# EAGLE library part LTC6268 (library esbd-chips)
LTC6268 Linear Technology / Analog Devices 500MHz Ultra-Low Bias Current FET Input Op Amp
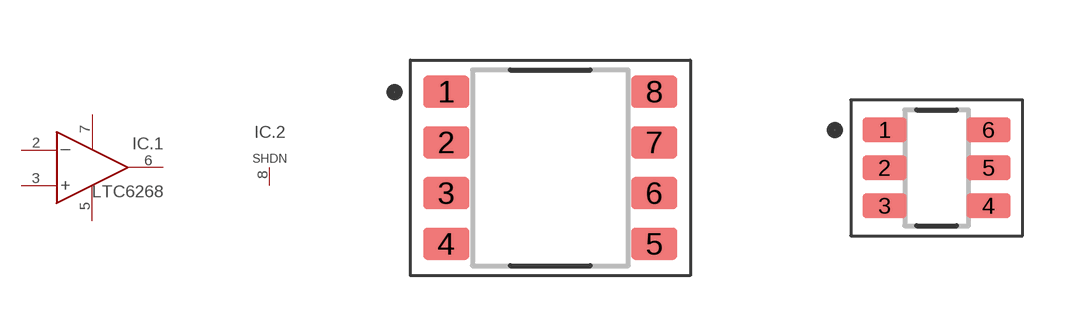
[diagram p34: symbol with the pads of SOIC8_3.90X4.90MM; footprints SOIC8_3.90X4.90MM, SOT23-6_1.60X2.90MM]

Designator prefix IC; gates .1=OPAMP .2=PIN_SHUTDOWN

## LTC6268*S8  [SOIC8_3.90X4.90MM]
2  .1:IN-  in
3  .1:IN+  in
5  .1:V-  pwr
6  .1:OUT  out
7  .1:V+  pwr
8  .2:SHDN  in

## LTC6268*S6  [SOT23-6_1.60X2.90MM]
1  .1:OUT  out
2  .1:V-  pwr
3  .1:IN+  in
4  .1:IN-  in
5  .2:SHDN  in
6  .1:V+  pwr

## Footprint SOIC8_3.90X4.90MM (pad centres in mm)
https://www.analog.com/media/en/package-pcb-resources/package/pkg_pdf/ltc-legacy-soic/05081610_G_SO8.pdf
smd 1.15 x 0.8: 1 -2.6,1.905; 2 -2.6,0.635; 3 -2.6,-0.635; 4 -2.6,-1.905; 5 2.6,-1.905; 6 2.6,-0.635; 7 2.6,0.635; 8 2.6,1.905

## Footprint SOT23-6_1.60X2.90MM (pad centres in mm)
https://www.analog.com/media/en/package-pcb-resources/package/pkg_pdf/ltc-legacy-sot-23/SOT_6_05-08-1636.pdf
smd 1.1 x 0.6: 1 -1.3,0.95; 2 -1.3,0; 3 -1.3,-0.95; 4 1.3,-0.95; 5 1.3,0; 6 1.3,0.95